# Altium schematic symbol library Terminal Block 4.SchLib: 1 symbol
Pins are listed as number, name and electrical type; pins without a type are passive.

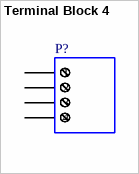
[diagram p0: symbol Terminal Block 4]

## Terminal Block 4
designator P?
Screw terminal block, 4-Way
pins: 1, 2, 3, 4